# Altium footprint library PcbLib2.PcbLib: 6 footprints
Each footprint in its own frame and in the unit in brackets; x right, y up, seen from the top. Pads: shape width x height; smd on the part's side, far side on the other; paste and mask are expansions set on the pad; w line width, h text height; cw(c..) or ccw(c..) is an arc to the next point about the centre after c.
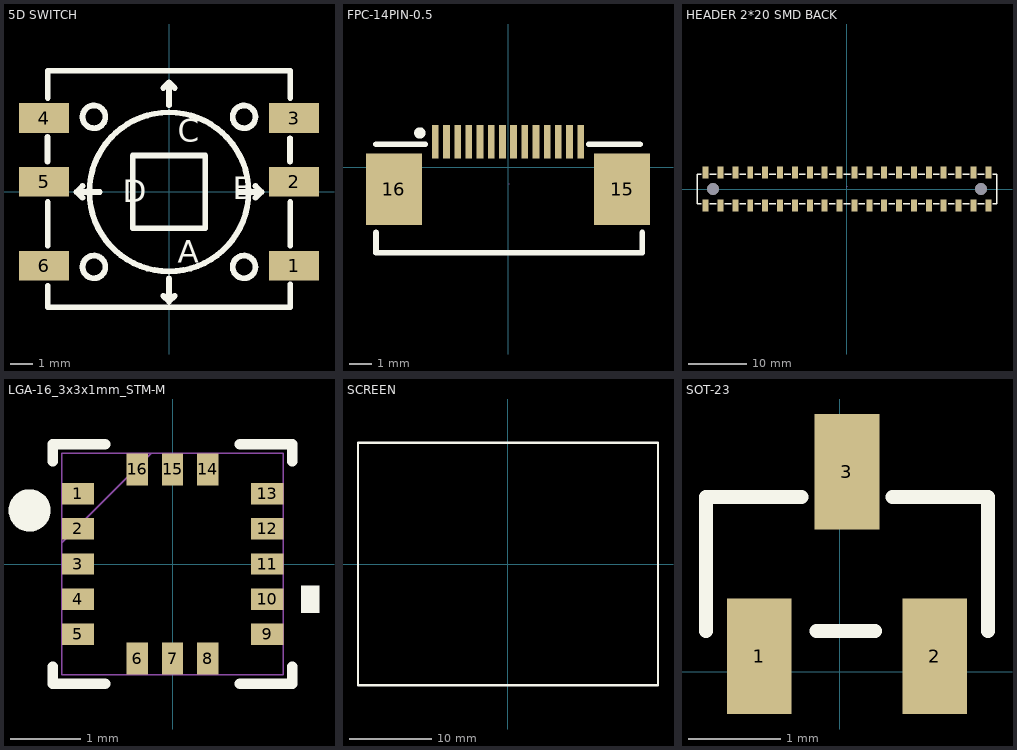
[diagram p0: the footprints below, top view; thin cyan lines are the x and y axes]

## 5D SWITCH [mm]
pads (6):
  rect 2.2x1.3 smd: 1(5.5,-3.25) 2(5.5,0.45) 3(5.5,3.25) 4(-5.5,3.25) 5(-5.5,0.45) 6(-5.5,-3.25)
Top Overlay:
  circle w0.254: c0,0 r3.5
  circle w0.254: c3.302,-3.302 r0.5
  circle w0.254: c-3.302,-3.302 r0.5
  circle w0.254: c3.302,3.302 r0.5
  circle w0.254: c-3.302,3.302 r0.5
  lines w0.254: -5.35,1.331 -5.35,2.42 ; -5.334,-4.131 -5.334,-5.08 5.334,-5.08 5.334,-4.064 ; -5.334,-2.369 -5.334,-0.881 -5.334,-0.45 ; -5.334,4.131 -5.334,5.334 5.334,5.334 5.334,4.131 ; -3.81,-0.254 -4.064,0 ; -3.81,0.254 -4.064,0 ; -3.048,0 -4.064,0 ; -0.254,-4.572 0,-4.826 ; -0.254,4.572 0,4.826 ; 0,-3.81 0,-4.826 ; 0,3.81 0,4.826 ; 0.254,-4.572 0,-4.826 ; 0.254,4.572 0,4.826 ; 3.048,0 4.064,0 ; 3.81,-0.254 4.064,0 ; 3.81,0.254 4.064,0 ; 5.33,1.331 5.33,2.36 ; 5.334,-4.572 5.334,-4.131 ; 5.334,-2.369 5.334,-0.881 5.334,-0.44 ; -1.6,-1.6 -1.6,1.6 1.6,1.6 1.6,-1.6 -1.6,-1.6
  text "C" at 0.381,2.205 h1
  text "D" at -2.032,-0.462 h1
  text "A" at 0.381,-3.129 h1
  text "B" at 2.794,-0.335 h1
Mechanical 15:
  circle w0.5: c6.096,-3.302 r0.25

## FPC-14PIN-0.5 [mm] "https://item.szlcsc.com/253870.html"
pads (16):
  rect 0.3x1.5 smd: 1(-3.25,1.123) 2(-2.75,1.123) 3(-2.25,1.123) 4(-1.75,1.123) 5(-1.25,1.123) 6(-0.75,1.123) 7(-0.25,1.123) 8(0.25,1.123) 9(0.75,1.123) 10(1.25,1.123) 11(1.75,1.123) 12(2.25,1.123) 13(2.75,1.123) 14(3.25,1.123)
  rect 2.5x3.2 smd: 15(5.1,-0.996) 16(-5.1,-0.996)
Top Overlay:
  circle w0.254: c-3.937,1.524 r0.127
  lines w0.254: -5.9,-2.921 -5.9,-3.834 6,-3.834 6,-2.921 ; -5.9,1.02 -3.7,1.02 ; 3.6,1.02 5.9,1.02
Mechanical 15:
  lines w0.003: 0.05,-0.757 0.05,-0.756

## HEADER 2*20 SMD BACK [mm] "https://item.szlcsc.com/2784386.html"
pads (42):
  rect 1.02x2 smd: 1(-24.13,-2.8) 2(-24.13,2.8) 3(-21.59,-2.8) 4(-21.59,2.8) 5(-19.05,-2.8) 6(-19.05,2.8) 7(-16.51,-2.8) 8(-16.51,2.8) 9(-13.97,-2.8) 10(-13.97,2.8) 11(-11.43,-2.8) 12(-11.43,2.8) 13(-8.89,-2.8) 14(-8.89,2.8) 15(-6.35,-2.8) 16(-6.35,2.8) 17(-3.81,-2.8) 18(-3.81,2.8) 19(-1.27,-2.8) 20(-1.27,2.8) 21(1.27,-2.8) 22(1.27,2.8) 23(3.81,-2.8) 24(3.81,2.8) 25(6.35,-2.8) 26(6.35,2.8) 27(8.89,-2.8) 28(8.89,2.8) 29(11.43,-2.8) 30(11.43,2.8) 31(13.97,-2.8) 32(13.97,2.8) 33(16.51,-2.8) 34(16.51,2.8) 35(19.05,-2.8) 36(19.05,2.8) 37(21.59,-2.8) 38(21.59,2.8) 39(24.13,-2.8) 40(24.13,2.8)
  round 2 hole 2 unplated: ""(-22.86,0) ""(22.86,0)
Top Overlay:
  lines w0.254: -24.871,-2.54 -25.6,-2.54 -25.6,2.54 -24.871,2.54 ; -23.389,-2.54 -22.331,-2.54 ; -23.389,2.54 -22.331,2.54 ; -20.849,-2.54 -19.791,-2.54 ; -20.849,2.54 -19.791,2.54 ; -18.309,-2.54 -17.251,-2.54 ; -18.309,2.54 -17.251,2.54 ; -15.769,-2.54 -14.711,-2.54 ; -15.769,2.54 -14.711,2.54 ; -13.229,-2.54 -12.171,-2.54 ; -13.229,2.54 -12.171,2.54 ; -10.689,-2.54 -9.631,-2.54 ; -10.689,2.54 -9.631,2.54 ; -8.149,-2.54 -7.091,-2.54 ; -8.149,2.54 -7.091,2.54 ; -5.609,-2.54 -4.551,-2.54 ; -5.609,2.54 -4.551,2.54 ; -3.069,-2.54 -2.011,-2.54 ; -3.069,2.54 -2.011,2.54 ; -0.529,-2.54 0.529,-2.54 ; -0.529,2.54 0.529,2.54 ; 2.011,-2.54 3.069,-2.54 ; 2.011,2.54 3.069,2.54 ; 4.551,-2.54 5.609,-2.54 ; 4.551,2.54 5.609,2.54 ; 7.091,-2.54 8.149,-2.54 ; 7.091,2.54 8.149,2.54 ; 9.631,-2.54 10.689,-2.54 ; 9.631,2.54 10.689,2.54 ; 12.171,-2.54 13.229,-2.54 ; 12.171,2.54 13.229,2.54 ; 14.711,-2.54 15.769,-2.54 ; 14.711,2.54 15.769,2.54 ; 17.251,-2.54 18.309,-2.54 ; 17.251,2.54 18.309,2.54 ; 19.791,-2.54 20.849,-2.54 ; 19.791,2.54 20.849,2.54 ; 22.331,-2.54 23.389,-2.54 ; 22.331,2.54 23.389,2.54 ; 24.871,-2.54 25.6,-2.54 25.6,2.54 ; 24.871,2.54 25.6,2.54
Mechanical 15:
  lines w0.003: 0,0.46 0,0.46

## LGA-16_3x3x1mm_STM-M [mil]
pads (16):
  rect 17.94x11.97 smd paste+0 mask+0: 1(-53,39.37) 2(-53,19.68) 3(-53,0) 4(-53,-19.68) 5(-53,-39.37) 9(53,-39.37) 10(53,-19.68) 11(53,0) 12(53,19.68) 13(53,39.37)
  rect 11.97x17.94 smd paste+0 mask+0: 6(-19.68,-53) 7(0,-53) 8(19.68,-53) 14(19.68,53) 15(0,53) 16(-19.68,53)
Top Overlay:
  circle w11.81: c-80,30 r5.91
  region: 71.97,-12.19 81.97,-12.19 81.97,-27.18 71.97,-27.18
  lines w6: -67,-57.45 -67,-67 -37.76,-67 ; -67,57.45 -67,67 -37.76,67 ; 37.76,-67 67,-67 67,-57.45 ; 37.76,67 67,67 67,57.45
Mechanical 13:
  lines w1: -62,12 -12,62 ; -62,-62 62,-62 62,62 -62,62 -62,-62
3D body: height 10, standoff 0, extent 0,0 10,10
3D body "LGA-16_3x3x1mm_STM.step": height 39.09, standoff 0, extent -62,-62 62.01,62.01

## SCREEN [mm]
Top Overlay:
  lines w0.254: -18.25,-14.75 18.25,-14.75 18.25,14.75 -18.25,14.75 -18.25,-14.75

## SOT-23 [mm]
pads (3):
  rect 0.7x1.25 smd: 1(-0.872,0.169) 2(1.028,0.169) 3(0.078,2.169)
Top Overlay:
  lines w0.152: -1.448,0.443 -1.448,1.895 -0.416,1.895 ; -0.254,0.443 0.381,0.443 ; 0.573,1.895 1.605,1.895 1.605,0.443